# EAGLE library part TPS562200DDCT (library TPS562200DDCT)
17 V Input, 2A Synchronous Step-Down Regulator in SOT-23 with Advanced Eco-mode? 6-SOT -40 to 125
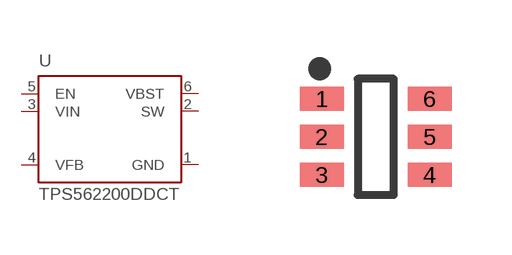
[diagram p0: symbol with the pads of SOT95P280X110-6N; footprint SOT95P280X110-6N]

Designator prefix U

## TPS562200DDCT (Availability: Unavailable; Description: 17 V Input, 2A Synchronous Step-Down egulator in SOT-23 with Advanced Eco-mode? 6-SOT -40 to 85; MF: Texas Instruments; MP: TPS562200DDCT; Package: TSOT-23-6 Texas Instruments; Price: None)  [SOT95P280X110-6N]
1  GND  pwr
2  SW  out
3  VIN  in
4  VFB  in
5  EN  in
6  VBST  pwr

## Footprint SOT95P280X110-6N (pad centres in mm)
smd 1.1 x 0.6: 1 -1.35,0.95; 2 -1.35,0; 3 -1.35,-0.95; 4 1.35,-0.95; 5 1.35,0; 6 1.35,0.95